# Altium footprint library 芯片封装.PcbLib: 55 footprints (part 4 of 4)
Each footprint in its own frame and in the unit in brackets; x right, y up, seen from the top. Pads: shape width x height; smd on the part's side, far side on the other; paste and mask are expansions set on the pad; w line width, h text height; cw(c..) or ccw(c..) is an arc to the next point about the centre after c.
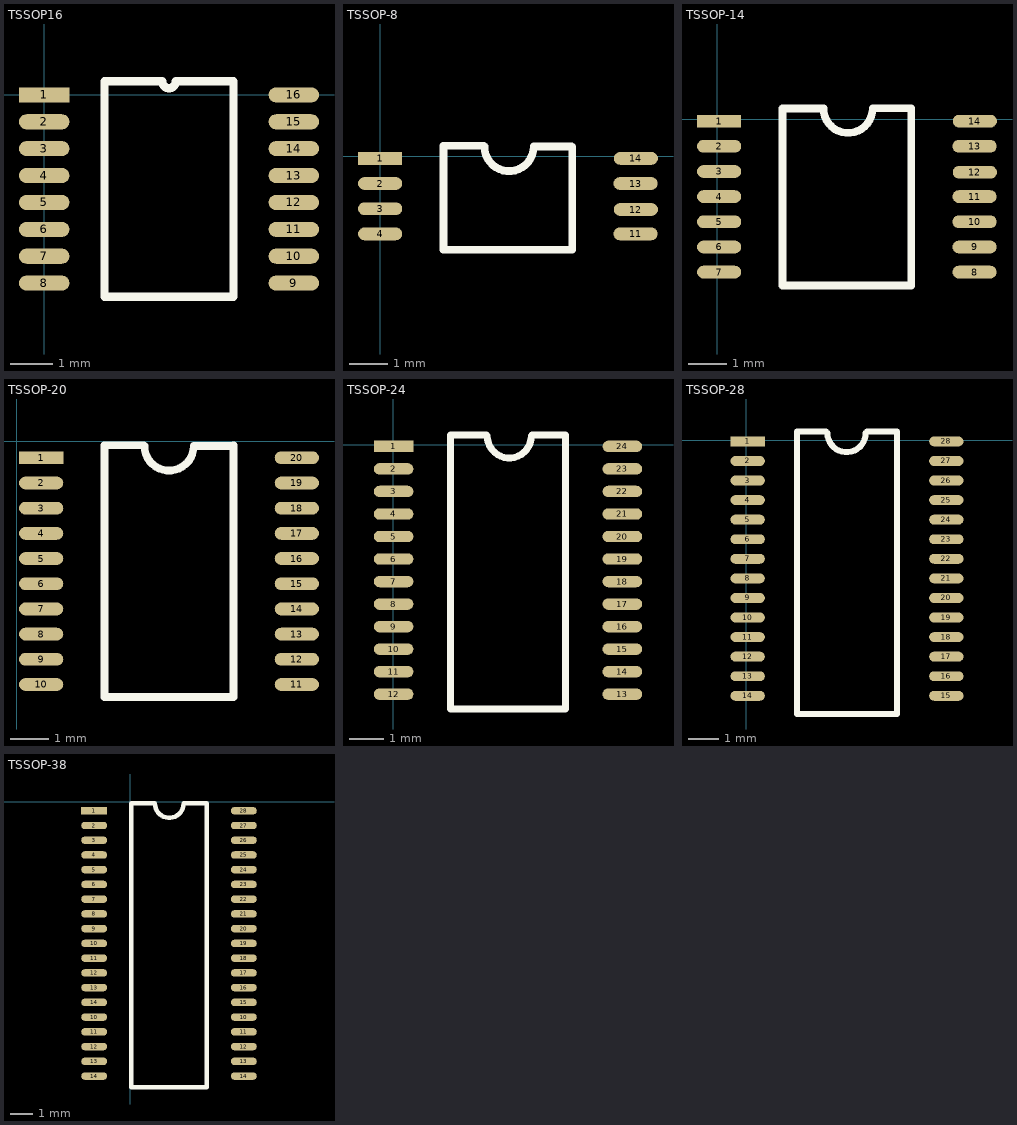
[diagram p3: the footprints below, top view; thin cyan lines are the x and y axes]

## TSSOP16 [mm]
pads (16):
  rect 1.2x0.36 smd: 1(0,0)
  oval 1.2x0.36 smd: 2(0,-0.64) 3(0,-1.28) 4(0,-1.92) 5(0,-2.56) 6(0,-3.2) 7(0,-3.84) 8(0,-4.48) 9(5.94,-4.48) 10(5.94,-3.84) 11(5.94,-3.2) 12(5.94,-2.56) 13(5.94,-1.92) 14(5.94,-1.28) 15(5.94,-0.64) 16(5.94,0)
Top Overlay:
  lines w0.2: 1.435,-4.8 4.505,-4.8 4.505,0.32 3.13,0.32 cw(c2.97,0.32) 2.81,0.32 1.435,0.32 1.435,-4.8

## TSSOP-8 [mil]
pads (8):
  rect 45x12.99 smd: 1(-0.16,-2)
  oval 45x12.99 smd: 2(-0.16,-27.59) 3(-0.16,-53.18) 4(-0.16,-78.77) 11(259.69,-78.77) 12(260,-54) 13(259.69,-27.59) 14(260,-2)
Top Overlay:
  lines w7.87: 105.2,10.79 64.21,10.79 64.21,-94.88 195.31,-94.88 195.31,9.84 ; 106,10 ccw(c131,10) 156,10 194.52,10

## TSSOP-14 [mil]
pads (14):
  rect 45x12.99 smd: 1(1.84,-2)
  oval 45x12.99 smd: 2(1.84,-27.59) 3(1.84,-53.18) 4(1.84,-78.77) 5(1.84,-104.36) 6(1.84,-129.95) 7(1.84,-155.54) 8(261.69,-155.54) 9(261.69,-129.95) 10(261.69,-104.36) 11(261.69,-78.77) 12(262,-54) 13(261.69,-27.59) 14(262,-2)
Top Overlay:
  lines w7.87: 107.64,10.79 66.21,10.79 66.21,-169.29 197.31,-169.29 197.31,10.79 ; 108,11 ccw(c133,11) 158,11 197.11,11

## TSSOP-20 [mm]
pads (20):
  rect 1.143x0.33 smd: 1(0.635,-0.432)
  oval 1.143x0.33 smd: 2(0.635,-1.082) 3(0.635,-1.732) 4(0.635,-2.382) 5(0.635,-3.032) 6(0.635,-3.682) 7(0.635,-4.332) 8(0.635,-4.982) 9(0.635,-5.632) 10(0.635,-6.282) 11(7.235,-6.282) 12(7.235,-5.632) 13(7.235,-4.982) 14(7.235,-4.332) 15(7.235,-3.682) 16(7.235,-3.032) 17(7.235,-2.382) 18(7.235,-1.732) 19(7.235,-1.082) 20(7.235,-0.432)
Top Overlay:
  lines w0.2: 3.282,-0.107 2.27,-0.107 2.27,-6.607 5.6,-6.607 5.6,-0.107 ; 3.302,-0.127 ccw(c3.937,-0.127) 4.572,-0.127 5.58,-0.127

## TSSOP-24 [mil]
pads (24):
  rect 45x12.99 smd: 1(0.63,-1.79)
  oval 45x12.99 smd: 2(0.63,-27.39) 3(0.63,-52.98) 4(0.63,-78.57) 5(0.63,-104.16) 6(0.63,-129.75) 7(0.63,-155.34) 8(0.63,-180.93) 9(0.63,-206.52) 10(0.63,-232.11) 11(0.63,-257.7) 12(0.63,-283.29) 13(260.47,-283.29) 14(260.47,-257.7) 15(260.47,-232.11) 16(260.47,-206.52) 17(260.47,-180.93) 18(260.47,-155.34) 19(260.47,-129.75) 20(260.47,-104.16) 21(260.47,-78.57) 22(260.47,-52.98) 23(260.47,-27.39) 24(260.47,-1.79)
Top Overlay:
  lines w7.87: 106,11 65,11 65,-300 196.1,-300 196.1,11 158,11 ; 107,10 ccw(c132,10) 157,10

## TSSOP-28 [mil]
pads (28):
  rect 45x12.99 smd: 1(1.63,-1.79)
  oval 45x12.99 smd: 2(1.63,-27.39) 3(1.63,-52.98) 4(1.63,-78.57) 5(1.63,-104.16) 6(1.63,-129.75) 7(1.63,-155.34) 8(1.63,-180.93) 9(1.63,-206.52) 10(1.63,-232.11) 11(1.63,-257.7) 12(1.63,-283.29) 13(1.63,-308.88) 14(1.63,-334.47) 15(261.47,-334.47) 16(261.47,-308.88) 17(261.47,-283.29) 18(261.47,-257.7) 19(261.47,-232.11) 20(261.47,-206.52) 21(261.47,-180.93) 22(261.47,-155.34) 23(261.47,-129.75) 24(261.47,-104.16) 25(261.47,-78.57) 26(261.47,-52.98) 27(261.47,-27.39) 28(261.47,-1.79)
Top Overlay:
  lines w7.87: 104,11 66,11 66,-358.27 197.1,-358.27 197.1,11 158,11 ; 106,9 ccw(c131,9) 156,9

## TSSOP-38 [mil]
pads (38):
  rect 45x12.99 smd: 1(-62.37,-15.79)
  oval 45x12.99 smd: 2(-62.37,-41.39) 3(-62.37,-66.98) 4(-62.37,-92.57) 5(-62.37,-118.16) 6(-62.37,-143.75) 7(-62.37,-169.34) 8(-62.37,-194.93) 9(-62.37,-220.52) 10(-62.37,-374.06) 10(-62.37,-246.11) 10(197.47,-374.06) 11(-62.37,-399.65) 11(-62.37,-271.7) 11(197.47,-399.65) 12(-62.37,-425.24) 12(-62.37,-297.29) 12(197.47,-425.24) 13(-62.37,-450.83) 13(-62.37,-322.88) 13(197.47,-450.83) 14(-62.37,-476.43) 14(-62.37,-348.47) 14(197.47,-476.43) 15(197.47,-348.47) 16(197.47,-322.88) 17(197.47,-297.29) 18(197.47,-271.7) 19(197.47,-246.11) 20(197.47,-220.52) 21(197.47,-194.93) 22(197.47,-169.34) 23(197.47,-143.75) 24(197.47,-118.16) 25(197.47,-92.57) 26(197.47,-66.98) 27(197.47,-41.39) 28(197.47,-15.79)
Top Overlay:
  lines w7.87: 2,-496.06 2,-3 43,-3 ccw(c68,-3) 93,-3 133.1,-3 133.1,-496.06 2,-496.06